# EAGLE library part USB-MINIUSB-5P (library Elecrow_Connector)
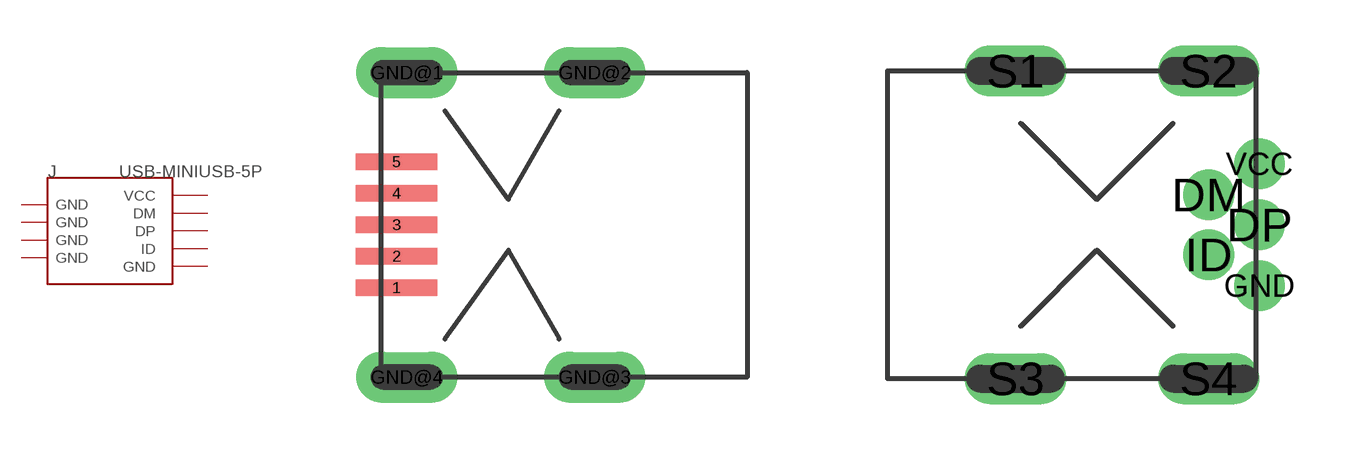
[diagram p0: symbol with the pads of MINI-SMD-5P; footprints MINI-SMD-5P, MINI-5P]

Designator prefix J

## USB-MINIUSB-5P-STRONG  [MINI-SMD-5P]
1  VCC
2  DM
3  DP
4  ID
5  GND
GND@1  GND
GND@2  GND
GND@3  GND
GND@4  GND

## USB-MINIUSB-5P-TH  [MINI-5P]
DM  DM
DP  DP
GND  GND
ID  ID
S1  GND
S2  GND
S3  GND
S4  GND
VCC  VCC

## USB-MINIUSB-5P-MICRO  [MICRO-USB]
1  VCC
2  DM
3  DP
4  ID
5  GND
S1  GND
S2  GND
S3  GND
S4  GND
S5  GND
S6  GND

## Footprint MINI-SMD-5P (pad centres in mm)
smd 2.032 x 0.406: 1 0.381,-1.575; 2 0.381,-0.787; 3 0.381,0; 4 0.381,0.787; 5 0.381,1.575
drill 0.635 pad 1.27 long: GND@1 0.635,3.81; GND@2 5.334,3.81; GND@3 5.334,-3.81; GND@4 0.635,-3.81

## Footprint MINI-5P (pad centres in mm)
drill 0.635 pad 1.27: DM -1.016,0.75; DP 0.254,0; GND 0.254,-1.524; ID -1.016,-0.75; VCC 0.254,1.524
drill 0.7 pad 1.27 long: S1 -5.842,3.85; S2 -1.016,3.85; S3 -5.842,-3.85; S4 -1.016,-3.85

## Footprint MICRO-USB (pad centres in mm)
smd 0.381 x 1.524: 1 -1.3,-0.25; 2 -0.65,-0.25; 3 0,-0.25; 4 0.65,-0.25; 5 1.3,-0.25
smd 1.6 x 1.2: S1 -3.4,-0.3; S6 3.4,-0.3
drill 0.635 pad 1.143 long: S2 -3.2,-2.85; S5 3.2,-2.85
smd 1.5 x 1.5: S3 -1,-3.9; S4 1,-3.9
hole 0.635 at -2,-0.65
hole 0.635 at 2,-0.65